# Altium footprint library BLUEGIGA_BLE112-A.PcbLib: 1 footprints
Each footprint in its own frame and in the unit in brackets; x right, y up, seen from the top. Pads: shape width x height; smd on the part's side, far side on the other; paste and mask are expansions set on the pad; w line width, h text height; cw(c..) or ccw(c..) is an arc to the next point about the centre after c.
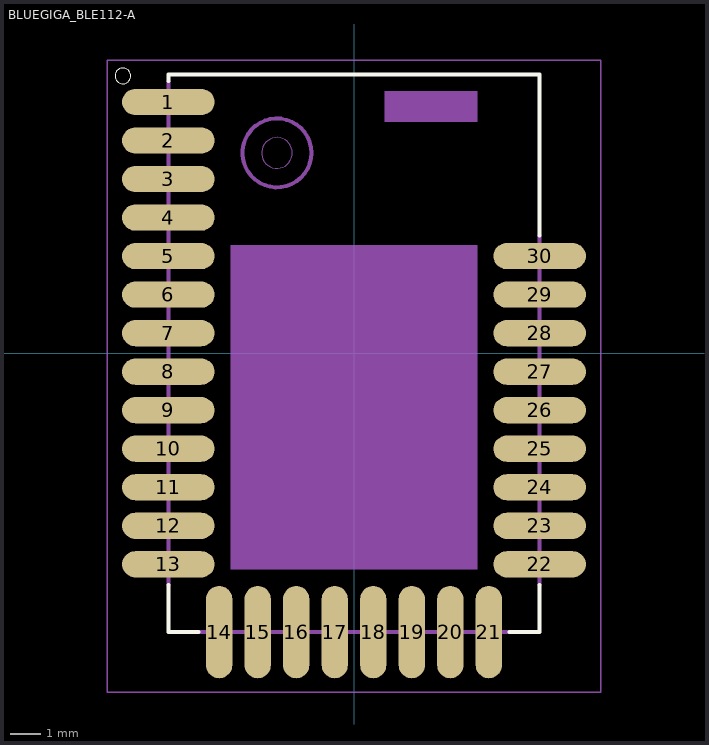
[diagram p0: the footprint, top view; thin cyan lines are the x and y axes]

## BLUEGIGA_BLE112-A [mm]
pads (30):
  oval 3x0.85 smd: 1(-6.025,8.15) 2(-6.025,6.9) 3(-6.025,5.65) 4(-6.025,4.4) 5(-6.025,3.15) 6(-6.025,1.9) 7(-6.025,0.65) 8(-6.025,-0.6) 9(-6.025,-1.85) 10(-6.025,-3.1) 11(-6.025,-4.35) 12(-6.025,-5.6) 13(-6.025,-6.85) 22(6.025,-6.85) 23(6.025,-5.6) 24(6.025,-4.35) 25(6.025,-3.1) 26(6.025,-1.85) 27(6.025,-0.6) 28(6.025,0.65) 29(6.025,1.9) 30(6.025,3.15)
  oval 0.85x3 smd: 14(-4.375,-9.05) 15(-3.125,-9.05) 16(-1.875,-9.05) 17(-0.625,-9.05) 18(0.625,-9.05) 19(1.875,-9.05) 20(3.125,-9.05) 21(4.375,-9.05)
Top Overlay:
  circle w0: c-7.5,9 r0.254
  lines w0.127: -6.025,-7.525 -6.025,-9.05 -5.05,-9.05 ; -6.025,8.825 -6.025,9.05 6.025,9.05 6.025,3.825 ; 5.05,-9.05 6.025,-9.05 6.025,-7.525
Mechanical 13:
  circle w0.127: c-2.5,6.5 r1.118
  circle w0: c-2.5,6.5 r0.5
  region: 4,-7.012 -4.007,-7.012 -4.007,3.5 4,3.5
  region: 4,7.507 1.001,7.507 1.001,8.5 4,8.5
  lines w0.127: -6.025,-7.525 -6.025,8.825 ; -5.05,-9.05 5.05,-9.05 ; 6.025,-7.525 6.025,3.825
Mechanical 15:
  lines w0.05: -8,-11 -8,9.5 8,9.5 8,-11 -8,-11